# Altium footprint library PcbLib1.PcbLib: 1 footprints
Each footprint in its own frame and in the unit in brackets; x right, y up, seen from the top. Pads: shape width x height; smd on the part's side, far side on the other; paste and mask are expansions set on the pad; w line width, h text height; cw(c..) or ccw(c..) is an arc to the next point about the centre after c.
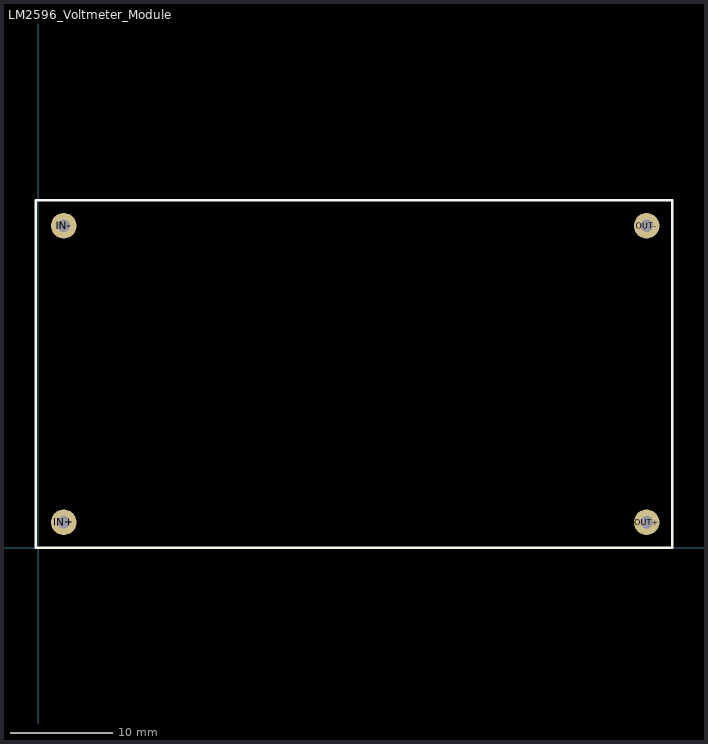
[diagram p0: the footprint, top view; thin cyan lines are the x and y axes]

## LM2596_Voltmeter_Module [mm]
pads (4):
  round 2.5 hole 1.2: IN+(2.5,2.5) IN-(2.5,31.5) OUT+(59.5,2.5) OUT-(59.5,31.5)
Top Overlay:
  lines w0.254: -0.024,0.024 -0.23,0.024 -0.23,34.012 62,34.012 62,0 0,0